# EAGLE library part LM1881 (library 838_Components)
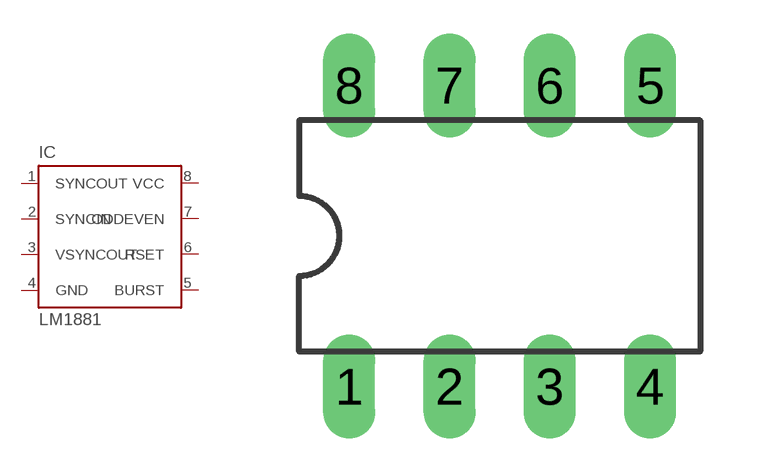
[diagram p8: symbol with the pads of DIL08; footprint DIL08]

Designator prefix IC

## LM1881  [DIL08]
1  SYNCOUT  out
2  SYNCIN  in
3  VSYNCOUT  out
4  GND  pwr
5  BURST  out
6  RSET  out
7  ODDEVEN  out
8  VCC  pwr

## Footprint DIL08 (pad centres in mm)
Dual In Line Package
drill 0.813 long: 1 -3.81,-3.81; 2 -1.27,-3.81; 3 1.27,-3.81; 4 3.81,-3.81; 5 3.81,3.81; 6 1.27,3.81; 7 -1.27,3.81; 8 -3.81,3.81